# EAGLE library part 87264-12 (library untitled)
RECEPTACAL
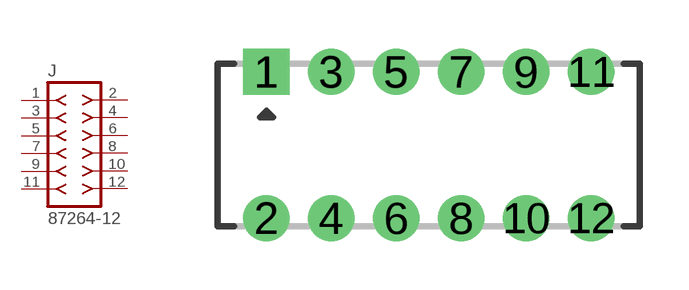
[diagram p207: symbol with the pads of 87264-12; footprint 87264-12]

Designator prefix J

## 87264-12  [87264-12]
1  1  pas
2  2  pas
3  3  pas
4  4  pas
5  5  pas
6  6  pas
7  7  pas
8  8  pas
9  9  pas
10  10  pas
11  11  pas
12  12  pas

## Footprint 87264-12 (pad centres in mm)
RECEPTACAL Dual Row, Side Entry
drill 0.914 square: 1 -5,2.25
drill 0.914 round: 2 -5,-2.25; 3 -3,2.25; 4 -3,-2.25; 5 -1,2.25; 6 -1,-2.25; 7 1,2.25; 8 1,-2.25; 9 3,2.25; 10 3,-2.25; 11 5,2.25; 12 5,-2.25